# Altium integrated library WE-TFCH_rev15a.intlib: 7 symbols
Pins are listed as number, name and electrical type; pins without a type are passive.

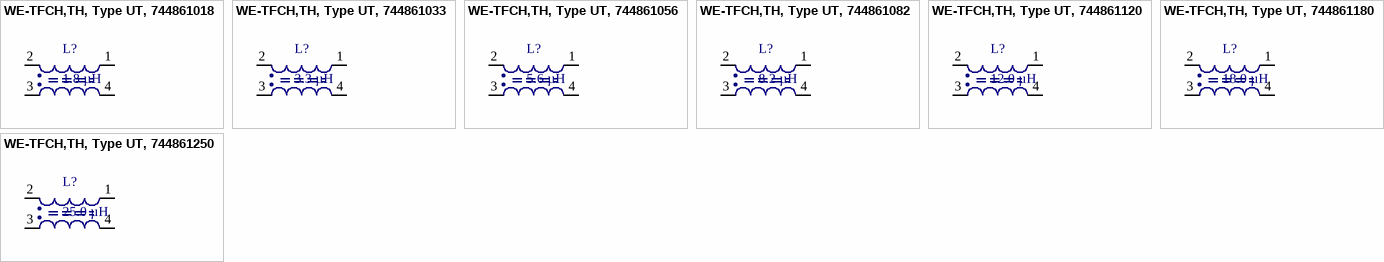
[diagram p0: symbols WE-TFCH,TH, Type UT, 744861018 to WE-TFCH,TH, Type UT, 744861250]

## WE-TFCH,TH, Type UT, 744861018
designator L?, comment 1.8 µH
Common Mode Power Line Choke Inductor WE-TFCH, L=1.8 µH; PartNo: 744861018; Manufacturer: Würth Elektronik eiSos GmbH; Inductance: 1.8 µH; ComponentLink1Description: Manufacturer; ComponentLink1URL: http://www.we-online.de; Created by: Christin Otto; Created Date: Mar 2013; ComponentLink2Description: Datasheet; ComponentLink2URL: http://katalog.we-online.de/pbs/datasheet/744861018.pdf
footprint WE-TFCH Type UT (Power Line Choke 4-Leads, TH, Body 17.0 x 15.23mm)
pins: 1, 2, 3, 4

## WE-TFCH,TH, Type UT, 744861033
designator L?, comment 3.3 µH
Common Mode Power Line Choke Inductor WE-TFCH, L=3.3 µH; PartNo: 744861033; Manufacturer: Würth Elektronik eiSos GmbH; Inductance: 3.3 µH; ComponentLink1Description: Manufacturer; ComponentLink1URL: http://www.we-online.de; Created by: Christin Otto; Created Date: Mar 2013; ComponentLink2Description: Datasheet; ComponentLink2URL: http://katalog.we-online.de/pbs/datasheet/744861033.pdf
footprint WE-TFCH Type UT (Power Line Choke 4-Leads, TH, Body 17.0 x 15.23mm)
pins: 1, 2, 3, 4

## WE-TFCH,TH, Type UT, 744861056
designator L?, comment 5.6 µH
Common Mode Power Line Choke Inductor WE-TFCH, L=5.6 µH; PartNo: 744861056; Manufacturer: Würth Elektronik eiSos GmbH; Inductance: 5.6 µH; ComponentLink1Description: Manufacturer; ComponentLink1URL: http://www.we-online.de; Created by: Christin Otto; Created Date: Mar 2013; ComponentLink2Description: Datasheet; ComponentLink2URL: http://katalog.we-online.de/pbs/datasheet/744861056.pdf
footprint WE-TFCH Type UT (Power Line Choke 4-Leads, TH, Body 17.0 x 15.23mm)
pins: 1, 2, 3, 4

## WE-TFCH,TH, Type UT, 744861082
designator L?, comment 8.2 µH
Common Mode Power Line Choke Inductor WE-TFCH, L=8.2 µH; PartNo: 744861082; Manufacturer: Würth Elektronik eiSos GmbH; Inductance: 8.2 µH; ComponentLink1Description: Manufacturer; ComponentLink1URL: http://www.we-online.de; Created by: Christin Otto; Created Date: Mar 2013; ComponentLink2Description: Datasheet; ComponentLink2URL: http://katalog.we-online.de/pbs/datasheet/744861082.pdf
footprint WE-TFCH Type UT (Power Line Choke 4-Leads, TH, Body 17.0 x 15.23mm)
pins: 1, 2, 3, 4

## WE-TFCH,TH, Type UT, 744861120
designator L?, comment 12.0 µH
Common Mode Power Line Choke Inductor WE-TFCH, L=12.0 µH; PartNo: 744861120; Manufacturer: Würth Elektronik eiSos GmbH; Inductance: 12.0 µH; ComponentLink1Description: Manufacturer; ComponentLink1URL: http://www.we-online.de; Created by: Christin Otto; Created Date: Mar 2013; ComponentLink2Description: Datasheet; ComponentLink2URL: http://katalog.we-online.de/pbs/datasheet/744861120.pdf
footprint WE-TFCH Type UT (Power Line Choke 4-Leads, TH, Body 17.0 x 15.23mm)
pins: 1, 2, 3, 4

## WE-TFCH,TH, Type UT, 744861180
designator L?, comment 18.0 µH
Common Mode Power Line Choke Inductor WE-TFCH, L=18.0 µH; PartNo: 744861180; Manufacturer: Würth Elektronik eiSos GmbH; Inductance: 18.0 µH; ComponentLink1Description: Manufacturer; ComponentLink1URL: http://www.we-online.de; Created by: Christin Otto; Created Date: Mar 2013; ComponentLink2Description: Datasheet; ComponentLink2URL: http://katalog.we-online.de/pbs/datasheet/744861180.pdf
footprint WE-TFCH Type UT (Power Line Choke 4-Leads, TH, Body 17.0 x 15.23mm)
pins: 1, 2, 3, 4

## WE-TFCH,TH, Type UT, 744861250
designator L?, comment 25.0 µH
Common Mode Power Line Choke Inductor WE-TFCH, L=25.0 µH; PartNo: 744861250; Manufacturer: Würth Elektronik eiSos GmbH; Inductance: 25.0 µH; ComponentLink1Description: Manufacturer; ComponentLink1URL: http://www.we-online.de; Created by: Christin Otto; Created Date: Mar 2013; ComponentLink2Description: Datasheet; ComponentLink2URL: http://katalog.we-online.de/pbs/datasheet/744861250.pdf
footprint WE-TFCH Type UT (Power Line Choke 4-Leads, TH, Body 17.0 x 15.23mm)
pins: 1, 2, 3, 4